# EAGLE library part HEADER-14POS (library quadparts_prebuilt)
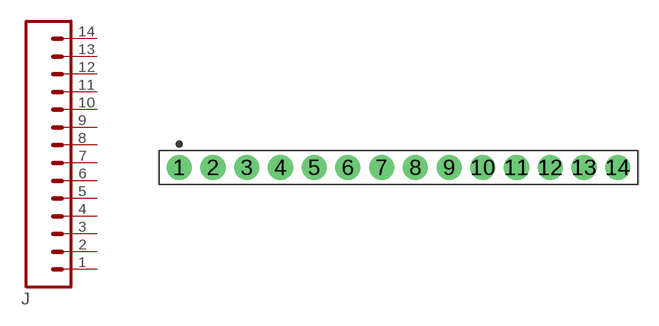
[diagram p8: symbol with the pads of HDRVR14W75P254_1X14_3606X254X850B; footprint HDRVR14W75P254_1X14_3606X254X850B]

Designator prefix J

## HEADER-14POS-0.1IN-FEMALE-TH  [HDRVR14W75P254_1X14_3606X254X850B]
1  1
2  2
3  3
4  4
5  5
6  6
7  7
8  8
9  9
10  10
11  11
12  12
13  13
14  14

## Footprint HDRVR14W75P254_1X14_3606X254X850B (pad centres in mm)
Single-row, 14-pin Receptacle Header (Female) Straight, 2.54 mm (0.10 in) col pitch, 8.50 mm insulator length, 36.06 X 2.54 X 8.50 mm body Single-row (1X14), 14-pin Receptacle Header (Female) Straight package with 2.54 mm (0.10 in) col pitch, 0.75 mm lead width, 3.50 mm tail length and 8.50 mm insulator length with overall size 36.06 X 2.54 X 8.50 mm, pin pattern - clockwise from top left
drill 1.261 pad 1.891: 1 0,0; 2 2.54,0; 3 5.08,0; 4 7.62,0; 5 10.16,0; 6 12.7,0; 7 15.24,0; 8 17.78,0; 9 20.32,0; 10 22.86,0; 11 25.4,0; 12 27.94,0; 13 30.48,0; 14 33.02,0